# Altium schematic symbol library IC-ExploreMicro.SchLib: 2 symbols
Pins are listed as number, name and electrical type; pins without a type are passive.

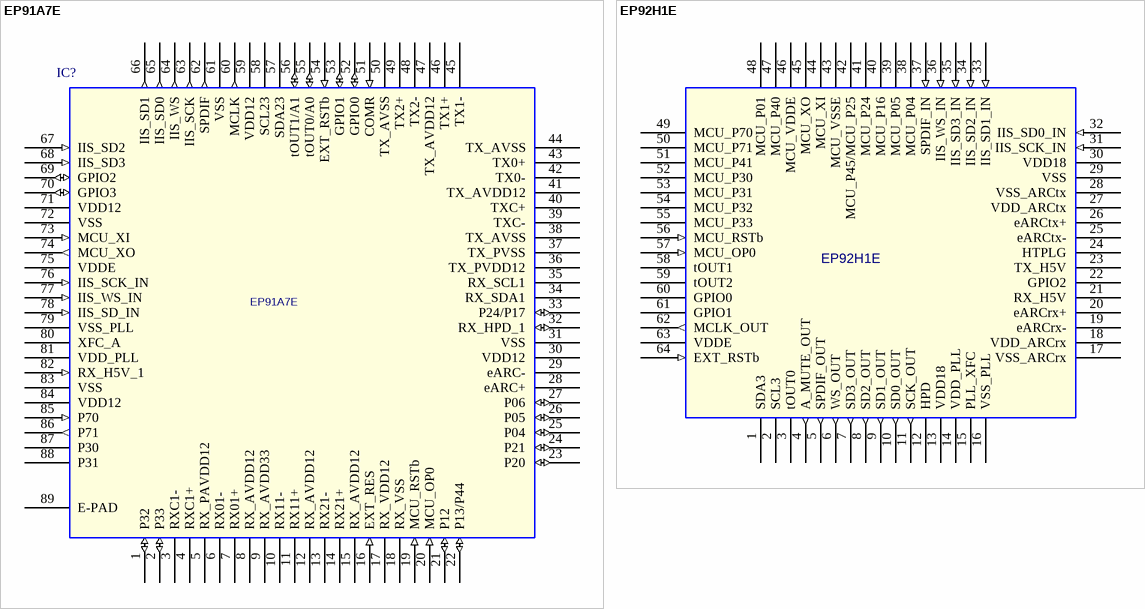
[diagram p0: symbols EP91A7E to EP92H1E]

## EP91A7E
designator IC?
HDMI 2.1 1-In 1-Out Repeater with / Audio In/Out, eARC and HDCP 1.4 / 2.3; Manufacturer_Name: Explore Microelectronics; Manufacturer_Part_Number: EP91A7E
footprint QFN-88-0.4P-EPAD (QFN, 88-Leads, Body 10.00x10.00mm, Pitch 0.40mm, Thermal Pad 6.80x6.80mm, IPC Medium Density)
pins: 1 P32 (io), 2 P33 (io), 3 RXC1-, 4 RXC1+, 5 RX_PAVDD12 (power), 6 RX01-, 7 RX01+, 8 RX_AVDD12 (power), 9 RX_AVDD33, 10 RX11-, 11 RX11+, 12 RX_AVDD12 (power), 13 RX21-, 14 RX21+, 15 RX_AVDD12 (power), 16 EXT_RES (in), 17 RX_VDD12 (power), 18 RX_VSS (power), 19 MCU_RSTb (in), 20 MCU_OP0 (in), 21 P12 (io), 22 P13/P44 (io), 23 P20 (io), 24 P21 (io), 25 P04 (io), 26 P05 (io), 27 P06 (io), 28 eARC+, 29 eARC-, 30 VDD12 (power), 31 VSS, 32 RX_HPD_1 (io), 33 P24/P17 (io), 34 RX_SDA1 (oc), 35 RX_SCL1 (oc), 36 TX_PVDD12 (power), 37 TX_PVSS (power), 38 TX_AVSS (power), 39 TXC-, 40 TXC+, 41 TX_AVDD12 (power), 42 TX0-, 43 TX0+, 44 TX_AVSS (power), 45 TX1-, 46 TX1+, 47 TX_AVDD12 (power), 48 TX2-, 49 TX2+, 50 TX_AVSS, 51 COMR (in), 52 GPIO0 (io), 53 GPIO1 (io), 54 EXT_RSTb (in), 55 tOUT0/A0 (io), 56 tOUT1/A1 (io), 57 SDA23 (oc), 58 SCL23 (oc), 59 VDD12 (power), 60 MCLK (out), 61 VSS, 62 SPDIF (out), 63 IIS_SCK (out), 64 IIS_WS (out), 65 IIS_SD0 (out), 66 IIS_SD1 (out), 67 IIS_SD2 (in), 68 IIS_SD3 (in), 69 GPIO2 (io), 70 GPIO3 (io), 71 VDD12 (power), 72 VSS, 73 MCU_XI (in), 74 MCU_XO (out), 75 VDDE, 76 IIS_SCK_IN (in), 77 IIS_WS_IN (in), 78 IIS_SD_IN (in), 79 VSS_PLL, 80 XFC_A, 81 VDD_PLL (power), 82 RX_H5V_1 (in), 83 VSS, 84 VDD12 (power), 85 P70 (in), 86 P71 (out), 87 P30 (oc), 88 P31 (oc), 89 E-PAD (power)

## EP92H1E
designator IC?
HDMI 2.1 Audio Interface Converter ARC/eARC Tx/Rx; Manufacturer_Name: Explore Microelectronics; Manufacturer_Part_Number: EP91A7E
footprint LQFP-64N-0.4P (64-Leads, Body 7.00x7.00mm, Pitch 0.40mm)
pins: 1 SDA3, 2 SCL3, 3 tOUT0, 4 A_MUTE_OUT (out), 5 SPDIF_OUT (out), 6 WS_OUT (out), 7 SD3_OUT (out), 8 SD2_OUT (out), 9 SD1_OUT (out), 10 SD0_OUT (out), 11 SCK_OUT (out), 12 HPD, 13 VDD18 (power), 14 VDD_PLL (power), 15 PLL_XFC, 16 VSS_PLL (power), 17 VSS_ARCrx (power), 18 VDD_ARCrx (power), 19 eARCrx-, 20 eARCrx+, 21 RX_H5V, 22 GPIO2, 23 TX_H5V, 24 HTPLG, 25 eARCtx-, 26 eARCtx+, 27 VDD_ARCtx (power), 28 VSS_ARCtx (power), 29 VSS (power), 30 VDD18 (power), 31 IIS_SCK_IN (in), 32 IIS_SD0_IN (in), 33 IIS_SD1_IN (in), 34 IIS_SD2_IN (in), 35 IIS_SD3_IN (in), 36 IIS_WS_IN (in), 37 SPDIF_IN (in), 38 MCU_P04, 39 MCU_P05, 40 MCU_P16, 41 MCU_P24, 42 MCU_P45/MCU_P25, 43 MCU_VSSE (power), 44 MCU_XI (power), 45 MCU_XO (power), 46 MCU_VDDE (power), 47 MCU_P40, 48 MCU_P01, 49 MCU_P70, 50 MCU_P71, 51 MCU_P41, 52 MCU_P30, 53 MCU_P31, 54 MCU_P32, 55 MCU_P33, 56 MCU_RSTb (in), 57 MCU_OP0 (in), 58 tOUT1, 59 tOUT2, 60 GPIO0, 61 GPIO1, 62 MCLK_OUT (out), 63 VDDE (power), 64 EXT_RSTb (in)